# Altium schematic symbol library UOMP_mechanical.SchLib: 7 symbols
Pins are listed as number, name and electrical type; pins without a type are passive.

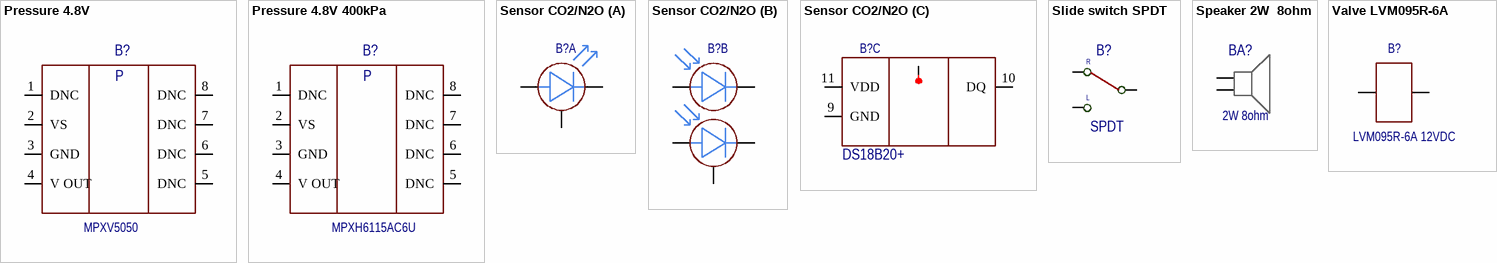
[diagram p0: symbols Pressure 4.8V to Valve LVM095R-6A]

## Pressure 4.8V
designator B?, comment MPXV5050
Name: Датчик давления MPXV5050
footprint PRES: MPXV5050
pins: 1 DNC, 2 VS, 3 GND, 4 V OUT, 5 DNC, 6 DNC, 7 DNC, 8 DNC
text: P

## Pressure 4.8V 400kPa
designator B?, comment MPXH6115AC6U
Code: 4218729615; Name: Датчик давления MPXH6115AC6U, NXP
footprint PRES: MPXH6115AC6U
pins: 1 DNC, 2 VS, 3 GND, 4 V OUT, 5 DNC, 6 DNC, 7 DNC, 8 DNC
text: P

## Receiver
designator *  (value not drawn)
Code: 14617000; Name: Ресивер
footprint RECEIVER

## Sensor CO2/N2O
designator B?
Code: 14112000; Name: Датчик CO2/N2O
footprint SENSOR: CO2/N2O (3701.14112000)
part A pins: 6, 7, 8
part B pins: 1, 2, 3, 4, 5
part C pins: 9 GND, 10 DQ, 11 VDD
part C text: DS18B20+

## Slide switch SPDT
designator B?, comment SPDT
Code: 631924721; Name: Переключатель движковый SPDT MSK-12C02 (IS-1290 A, MSK-12C01-07)
footprint Slide Switch 3 pin
pins: 1, 2, 3
text: R; L

## Speaker 2W  8ohm
designator BA?, comment 2W 8ohm
Code: 6399632431; Name: Динамик SW280708-1, DB Unlimited
footprint AUD: SPEAKER
pins: 1, 2

## Valve LVM095R-6A
designator B?, comment LVM095R-6A 12VDC
Solenoid Valve 12V DC; Code: 14612000; Name: Клапан (LVM095R-6A)
footprint VALVE: LVM095R-6A (3701.14612000)
pins: 1, 2